# Altium schematic symbol library ERA-2AEB3742X.SchLib: 1 symbol
Pins are listed as number, name and electrical type; pins without a type are passive.

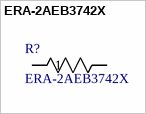
[diagram p0: symbol ERA-2AEB3742X]

## ERA-2AEB3742X
designator R?
No Description Available; Manufacturer_Name: Panasonic; Copyright: Copyright (C) 2026 Ultra Librarian. All rights reserved.; Manufacturer_Part_Number: ERA-2AEB3742X
footprint 0402_PAN
pins: 1, 2